# Altium footprint library Additional Library Mar3_2017.PcbLib: 2 footprints
Each footprint in its own frame and in the unit in brackets; x right, y up, seen from the top. Pads: shape width x height; smd on the part's side, far side on the other; paste and mask are expansions set on the pad; w line width, h text height; cw(c..) or ccw(c..) is an arc to the next point about the centre after c.
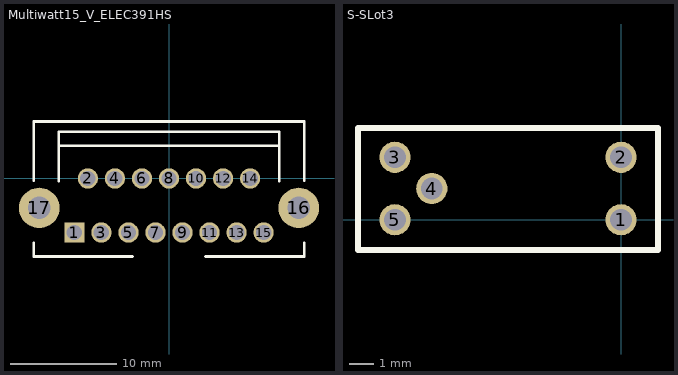
[diagram p0: the footprints below, top view; thin cyan lines are the x and y axes]

## Multiwatt15_V_ELEC391HS [mil]
pads (17):
  rect 75x75 hole 57: 1(-350,-200)
  round 75 hole 57: 2(-300,0) 3(-250,-200) 4(-200,0) 5(-150,-200) 6(-100,0) 7(-50,-200) 8(0,0) 9(50,-200) 10(100,0) 11(150,-200) 12(200,0) 13(250,-200) 14(300,0) 15(350,-200)
  round 150 hole 83: 16(480,-109) 17(-480,-109)
Top Overlay:
  lines w10: -500,-239 -500,-289 -135,-289 ; -500,-9 -500,211 500,211 500,-9 ; -407.5,-9.5 -407.5,121 ; 135,-289 500,-289 500,-239 ; 407.5,-9.5 407.5,121 ; -407.5,121 407.5,121 ; -407.5,121 -407.5,173 407.5,173 407.5,121
3D body "MULTIWATT15.step": height 825.79, standoff -155.12, extent -385,-200 386.66,157.01

## S-SLot3 [mil] "GP1A52HPJ00F"
height 393.7
pads (5):
  round 50 hole 35: 1(0,0) 2(0,100) 3(-362.2,100) 4(-303.15,50) 5(-362.2,0)
Top Overlay:
  lines w10: -421.26,-48.43 -421.26,146.85 59.06,146.85 59.06,-48.43 -421.26,-48.43